# Altium footprint library DIP.PcbLib: 25 footprints (part 1 of 2)
Each footprint in its own frame and in the unit in brackets; x right, y up, seen from the top. Pads: shape width x height; smd on the part's side, far side on the other; paste and mask are expansions set on the pad; w line width, h text height; cw(c..) or ccw(c..) is an arc to the next point about the centre after c.
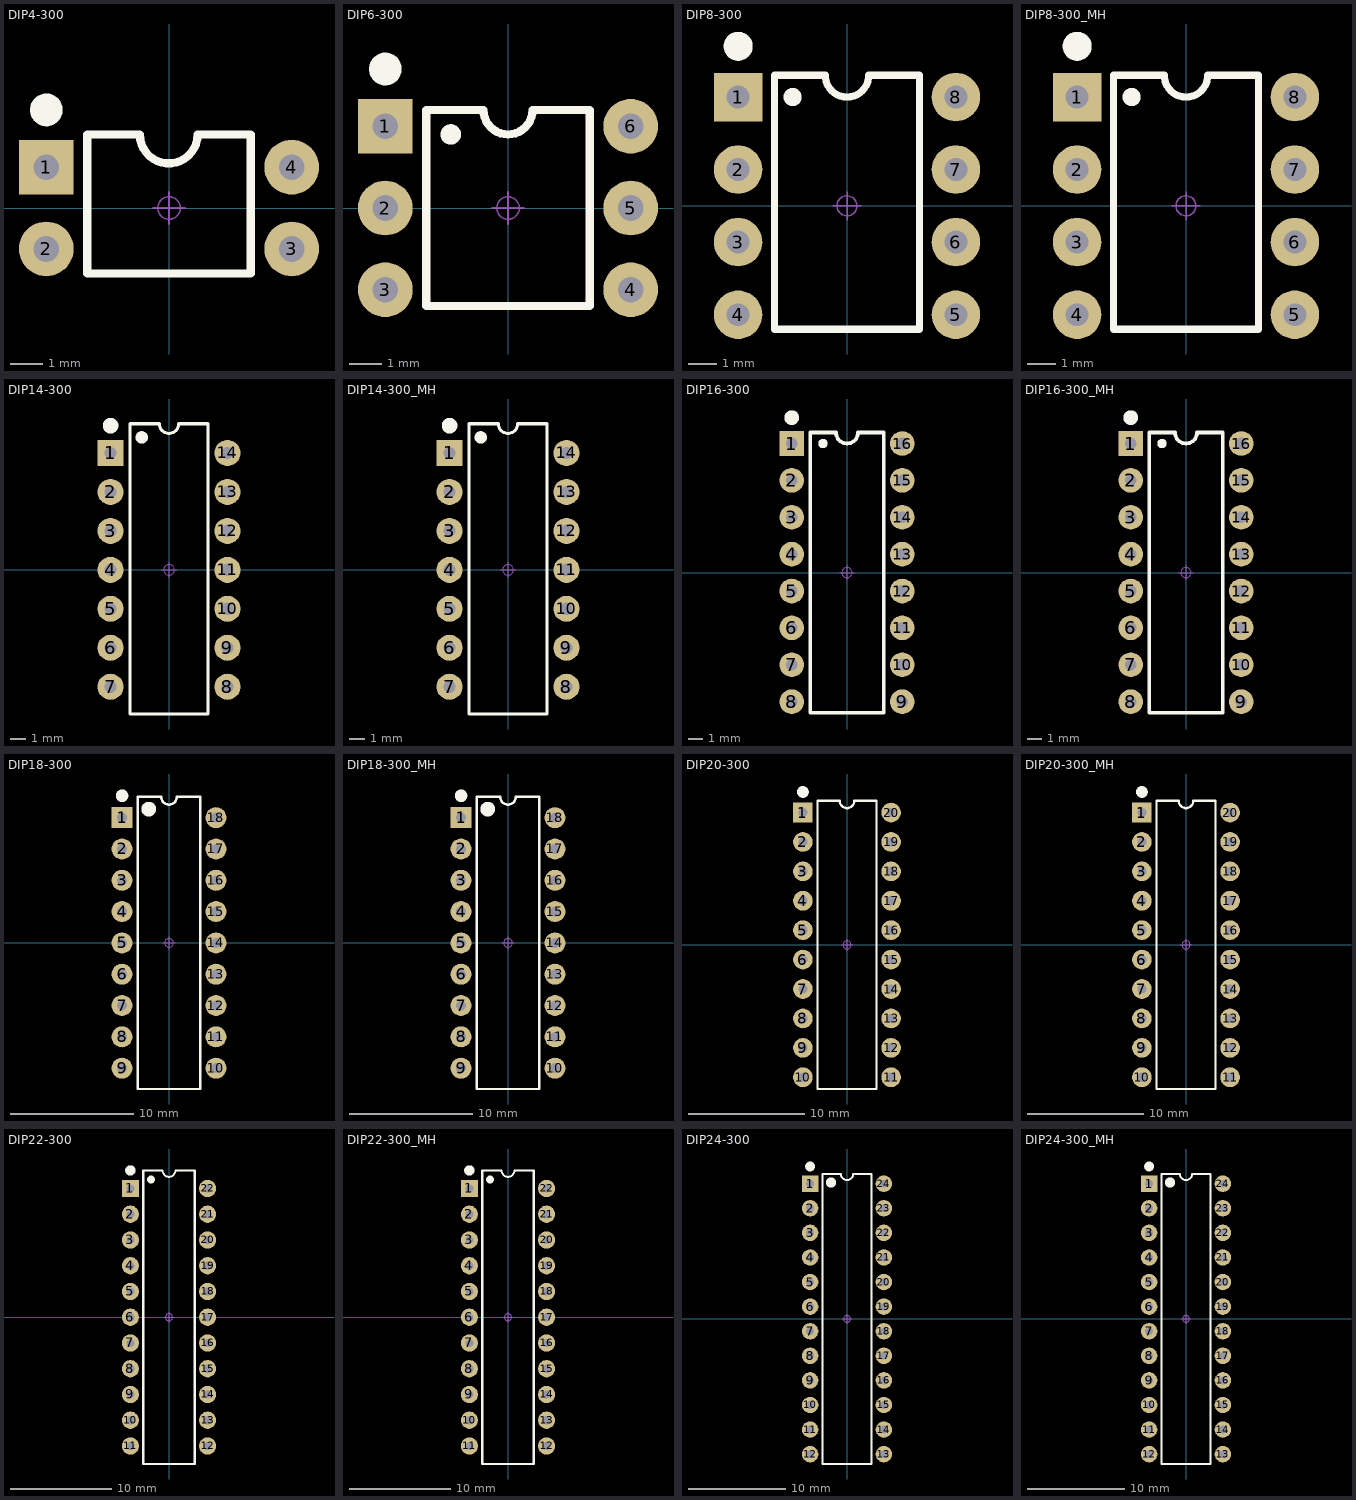
[diagram p0: the footprints below, top view; thin cyan lines are the x and y axes]

## DIP4-300 [mm] "4.6*7.6*3.8(长宽高）"
pads (4):
  rect 1.7x1.7 hole 0.8: 1(-3.81,1.27)
  round 1.7 hole 0.8: 2(-3.81,-1.27) 3(3.81,-1.27) 4(3.81,1.27)
Top Overlay:
  circle w0.508: c-3.81,3.048 r0.254
  lines w0.254: -2.54,-2.032 2.54,-2.032 2.54,2.286 0.889,2.286 cw(c-0.009,2.286) -0.907,2.286 -2.54,2.286 -2.54,-2.032
Mechanical 15:
  circle w0.05: c0,0 r0.35
  lines w0.05: -0.5,0 0.5,0 ; 0,-0.5 0,0.5
3D body "DIP4-300.STEP": height 4.5, standoff -3.29, extent -3.935,-2.29 3.935,2.29

## DIP6-300 [mm] "6.8*7.6*3.8(长宽高）"
pads (6):
  rect 1.7x1.7 hole 0.8: 1(-3.81,2.54)
  round 1.7 hole 0.8: 2(-3.81,0) 3(-3.81,-2.54) 4(3.81,-2.54) 5(3.81,0) 6(3.81,2.54)
Top Overlay:
  circle w0.508: c-3.81,4.318 r0.254
  circle w0.381: c-1.778,2.286 r0.127
  lines w0.254: -2.54,-3.048 -2.54,3.048 -0.762,3.048 ccw(c0,3.048) 0,2.286 ccw(c0,3.048) 0.762,3.048 2.54,3.048 2.54,-3.048 -2.54,-3.048
Mechanical 15:
  circle w0.05: c0,0 r0.35
  lines w0.05: -0.5,0 0.5,0 ; 0,-0.5 0,0.5
3D body "DIP6-300.STEP": height 4.5, standoff -3.2, extent -3.925,-3.43 3.925,3.43

## DIP8-300 [mm] "9.4*7.6*3.8(长宽高）"
pads (8):
  rect 1.7x1.7 hole 0.8: 1(-3.81,3.81)
  round 1.7 hole 0.8: 2(-3.81,1.27) 3(-3.81,-1.27) 4(-3.81,-3.81) 5(3.81,-3.81) 6(3.81,-1.27) 7(3.81,1.27) 8(3.81,3.81)
Top Overlay:
  circle w0.508: c-3.81,5.588 r0.254
  circle w0.381: c-1.905,3.81 r0.127
  lines w0.254: -2.54,-4.318 2.54,-4.318 2.54,4.572 0.762,4.572 cw(c0,4.572) 0,3.81 cw(c0,4.572) -0.762,4.572 -2.54,4.572 -2.54,-4.318
Mechanical 15:
  circle w0.05: c0,0 r0.35
  lines w0.05: -0.5,0 0.5,0 ; 0,-0.5 0,0.5
3D body "DIP8-300.STEP": height 4.5, standoff -3.2, extent -3.925,-4.7 3.925,4.7

## DIP8-300_MH [mm] "带底座 9.4*7.6*3.8(长宽高）"
pads (8):
  rect 1.7x1.7 hole 0.8: 1(-3.81,3.81)
  round 1.7 hole 0.8: 2(-3.81,1.27) 3(-3.81,-1.27) 4(-3.81,-3.81) 5(3.81,-3.81) 6(3.81,-1.27) 7(3.81,1.27) 8(3.81,3.81)
Top Overlay:
  circle w0.381: c-1.905,3.81 r0.127
  circle w0.508: c-3.81,5.588 r0.254
  lines w0.254: -2.54,-4.318 2.54,-4.318 2.54,4.572 0.762,4.572 cw(c0,4.572) 0,3.81 cw(c0,4.572) -0.762,4.572 -2.54,4.572 -2.54,-4.318
Mechanical 15:
  circle w0.05: c0,0 r0.35
  lines w0.05: -0.5,0 0.5,0 ; 0,-0.5 0,0.5
3D body "DIP-MH8-300.STEP": height 4.95, standoff -2.95, extent -5,-5.19 5,5.19
3D body "DIP8-300.STEP": height 7.7, standoff 0, extent -3.925,-4.7 3.925,4.7

## DIP14-300 [mm] "19*7.6*3.8(长宽高）"
pads (14):
  rect 1.7x1.7 hole 0.8: 1(-3.81,7.62)
  round 1.7 hole 0.8: 2(-3.81,5.08) 3(-3.81,2.54) 4(-3.81,0) 5(-3.81,-2.54) 6(-3.81,-5.08) 7(-3.81,-7.62) 8(3.81,-7.62) 9(3.81,-5.08) 10(3.81,-2.54) 11(3.81,0) 12(3.81,2.54) 13(3.81,5.08) 14(3.81,7.62)
Top Overlay:
  circle w0.6: c-1.778,8.636 r0.1
  circle w0.508: c-3.81,9.398 r0.254
  lines w0.2: -2.54,-9.398 2.54,-9.398 2.54,9.525 0.635,9.525 cw(c0,9.525) -0.635,9.525 -2.54,9.525 -2.54,-9.398
Mechanical 15:
  circle w0.05: c0,0 r0.35
  lines w0.05: -0.5,0 0.5,0 ; 0,-0.5 0,0.5
3D body "DIP14-300.STEP": height 4.1, standoff -3.34, extent -3.98,-9.5 3.98,9.5

## DIP14-300_MH [mm] "带底座  19*7.6*3.8(长宽高）"
pads (14):
  rect 1.7x1.7 hole 0.8: 1(-3.81,7.62)
  round 1.7 hole 0.8: 2(-3.81,5.08) 3(-3.81,2.54) 4(-3.81,0) 5(-3.81,-2.54) 6(-3.81,-5.08) 7(-3.81,-7.62) 8(3.81,-7.62) 9(3.81,-5.08) 10(3.81,-2.54) 11(3.81,0) 12(3.81,2.54) 13(3.81,5.08) 14(3.81,7.62)
Top Overlay:
  circle w0.508: c-3.81,9.398 r0.254
  circle w0.6: c-1.778,8.636 r0.1
  lines w0.2: -2.54,-9.398 2.54,-9.398 2.54,9.525 0.635,9.525 cw(c0,9.525) -0.635,9.525 -2.54,9.525 -2.54,-9.398
Mechanical 15:
  circle w0.05: c0,0 r0.35
  lines w0.05: -0.5,0 0.5,0 ; 0,-0.5 0,0.5
3D body "DIP-MH14-300.STEP": height 4.95, standoff -2.95, extent -5,-9 5,9
3D body "DIP14-300.STEP": height 7.15, standoff -0.3, extent -3.98,-9.5 3.98,9.5

## DIP16-300 [mm] "19.3*7.6*3.8(长宽高）"
pads (16):
  rect 1.7x1.7 hole 0.8: 1(-3.81,8.89)
  round 1.7 hole 0.8: 2(-3.81,6.35) 3(-3.81,3.81) 4(-3.81,1.27) 5(-3.81,-1.27) 6(-3.81,-3.81) 7(-3.81,-6.35) 8(-3.81,-8.89) 9(3.81,-8.89) 10(3.81,-6.35) 11(3.81,-3.81) 12(3.81,-1.27) 13(3.81,1.27) 14(3.81,3.81) 15(3.81,6.35) 16(3.81,8.89)
Top Overlay:
  circle w0.508: c-3.81,10.668 r0.254
  circle w0.381: c-1.651,8.89 r0.127
  lines w0.254: -2.54,-9.652 -2.54,9.652 -0.762,9.652 ccw(c0,9.652) 0,8.89 ccw(c0,9.652) 0.762,9.652 2.54,9.652 2.54,-9.652 -2.54,-9.652
Mechanical 15:
  circle w0.05: c0,0 r0.35
  lines w0.05: -0.5,0 0.5,0 ; 0,-0.5 0,0.5
3D body "DIP16-300.STEP": height 4.3, standoff -3.3, extent -4.02,-9.65 4.02,9.65

## DIP16-300_MH [mm] "带底座 19.3*7.6*3.8(长宽高）"
pads (16):
  rect 1.7x1.7 hole 0.8: 1(-3.81,8.89)
  round 1.7 hole 0.8: 2(-3.81,6.35) 3(-3.81,3.81) 4(-3.81,1.27) 5(-3.81,-1.27) 6(-3.81,-3.81) 7(-3.81,-6.35) 8(-3.81,-8.89) 9(3.81,-8.89) 10(3.81,-6.35) 11(3.81,-3.81) 12(3.81,-1.27) 13(3.81,1.27) 14(3.81,3.81) 15(3.81,6.35) 16(3.81,8.89)
Top Overlay:
  circle w0.508: c-3.81,10.668 r0.254
  circle w0.381: c-1.651,8.89 r0.127
  lines w0.254: -2.54,-9.652 -2.54,9.652 -0.762,9.652 ccw(c0,9.652) 0,8.89 ccw(c0,9.652) 0.762,9.652 2.54,9.652 2.54,-9.652 -2.54,-9.652
Mechanical 15:
  circle w0.05: c0,0 r0.35
  lines w0.05: -0.5,0 0.5,0 ; 0,-0.5 0,0.5
3D body "DIP-MH16-300.STEP": height 5.25, standoff -2.95, extent -4.981,-10.25 5,10.25
3D body "DIP16-300.STEP": height 7.5, standoff -0.1, extent -4.02,-9.65 4.02,9.65

## DIP18-300 [mm] "23*7.6*3.8(长宽高）"
height 5.08
pads (18):
  rect 1.7x1.7 hole 0.8: 1(-3.81,10.16)
  round 1.7 hole 0.8: 2(-3.81,7.62) 3(-3.81,5.08) 4(-3.81,2.54) 5(-3.81,0) 6(-3.81,-2.54) 7(-3.81,-5.08) 8(-3.81,-7.62) 9(-3.81,-10.16) 10(3.81,-10.16) 11(3.81,-7.62) 12(3.81,-5.08) 13(3.81,-2.54) 14(3.81,0) 15(3.81,2.54) 16(3.81,5.08) 17(3.81,7.62) 18(3.81,10.16)
Top Overlay:
  circle w0.6: c-1.65,10.85 r0.3
  circle w0.508: c-3.81,11.938 r0.254
  lines w0.2: -2.54,-11.85 -2.54,11.85 -0.635,11.85 ccw(c0,11.85) 0.635,11.85 2.54,11.85 2.54,-11.85 -2.54,-11.85
Mechanical 15:
  circle w0.05: c0,0 r0.35
  lines w0.05: -0.5,0 0.5,0 ; 0,-0.5 0,0.5
3D body "DIP18-300.STEP": height 4.2, standoff -3.24, extent -4,-11.55 4,11.55

## DIP18-300_MH [mm] "带底座 23*7.6*3.8(长宽高）"
height 5.08
pads (18):
  rect 1.7x1.7 hole 0.8: 1(-3.81,10.16)
  round 1.7 hole 0.8: 2(-3.81,7.62) 3(-3.81,5.08) 4(-3.81,2.54) 5(-3.81,0) 6(-3.81,-2.54) 7(-3.81,-5.08) 8(-3.81,-7.62) 9(-3.81,-10.16) 10(3.81,-10.16) 11(3.81,-7.62) 12(3.81,-5.08) 13(3.81,-2.54) 14(3.81,0) 15(3.81,2.54) 16(3.81,5.08) 17(3.81,7.62) 18(3.81,10.16)
Top Overlay:
  circle w0.508: c-3.81,11.938 r0.254
  circle w0.6: c-1.65,10.85 r0.3
  lines w0.2: -2.54,-11.85 2.54,-11.85 2.54,11.85 0.635,11.85 cw(c0,11.85) -0.635,11.85 -2.54,11.85 -2.54,-11.85
Mechanical 15:
  circle w0.05: c0,0 r0.35
  lines w0.05: -0.5,0 0.5,0 ; 0,-0.5 0,0.5
3D body "DIP-MH18-300.STEP": height 5.25, standoff -2.95, extent -4.981,-11.52 5,11.52
3D body "DIP18-300.STEP": height 7.4, standoff -0.04, extent -4,-11.55 4,11.55

## DIP20-300 [mm] "26.4*7.6*3.8(长宽高）"
pads (20):
  rect 1.7x1.7 hole 0.8: 1(-3.81,11.43)
  round 1.7 hole 0.8: 2(-3.81,8.89) 3(-3.81,6.35) 4(-3.81,3.81) 5(-3.81,1.27) 6(-3.81,-1.27) 7(-3.81,-3.81) 8(-3.81,-6.35) 9(-3.81,-8.89) 10(-3.81,-11.43) 11(3.81,-11.43) 12(3.81,-8.89) 13(3.81,-6.35) 14(3.81,-3.81) 15(3.81,-1.27) 16(3.81,1.27) 17(3.81,3.81) 18(3.81,6.35) 19(3.81,8.89) 20(3.81,11.43)
Top Overlay:
  circle w0.508: c-3.81,13.208 r0.254
  lines w0.2: -2.54,-12.446 2.54,-12.446 2.54,12.446 0.635,12.446 cw(c0,12.446) -0.635,12.446 -2.54,12.446 -2.54,-12.446
Mechanical 15:
  circle w0.05: c0,0 r0.35
  lines w0.05: -0.5,0 0.5,0 ; 0,-0.5 0,0.5
3D body "DIP20-300.STEP": height 4.5, standoff -3.3, extent -4,-13.2 4,13.2

## DIP20-300_MH [mm] "带底座 26.4*7.6*3.8(长宽高）"
pads (20):
  rect 1.7x1.7 hole 0.8: 1(-3.81,11.43)
  round 1.7 hole 0.8: 2(-3.81,8.89) 3(-3.81,6.35) 4(-3.81,3.81) 5(-3.81,1.27) 6(-3.81,-1.27) 7(-3.81,-3.81) 8(-3.81,-6.35) 9(-3.81,-8.89) 10(-3.81,-11.43) 11(3.81,-11.43) 12(3.81,-8.89) 13(3.81,-6.35) 14(3.81,-3.81) 15(3.81,-1.27) 16(3.81,1.27) 17(3.81,3.81) 18(3.81,6.35) 19(3.81,8.89) 20(3.81,11.43)
Top Overlay:
  circle w0.508: c-3.81,13.208 r0.254
  lines w0.2: -2.54,-12.446 2.54,-12.446 2.54,12.446 0.635,12.446 cw(c0,12.446) -0.635,12.446 -2.54,12.446 -2.54,-12.446
Mechanical 15:
  circle w0.05: c0,0 r0.35
  lines w0.05: -0.5,0 0.5,0 ; 0,-0.5 0,0.5
3D body "DIP20-300.STEP": height 8.1, standoff 0.3, extent -4,-13.2 4,13.2
3D body "DIP-MH20-300.STEP": height 5.25, standoff -2.95, extent -4.981,-12.79 5,12.79

## DIP22-300 [mm] "29*7.6*3.8(长宽高）"
pads (22):
  rect 1.7x1.7 hole 0.8: 1(-3.81,12.7)
  round 1.7 hole 0.8: 2(-3.81,10.16) 3(-3.81,7.62) 4(-3.81,5.08) 5(-3.81,2.54) 6(-3.81,0) 7(-3.81,-2.54) 8(-3.81,-5.08) 9(-3.81,-7.62) 10(-3.81,-10.16) 11(-3.81,-12.7) 12(3.81,-12.7) 13(3.81,-10.16) 14(3.81,-7.62) 15(3.81,-5.08) 16(3.81,-2.54) 17(3.81,0) 18(3.81,2.54) 19(3.81,5.08) 20(3.81,7.62) 21(3.81,10.16) 22(3.81,12.7)
Top Overlay:
  circle w0.508: c-3.81,14.478 r0.254
  circle w0.508: c-1.778,13.578 r0.127
  lines w0.2: -2.54,-14.478 -2.54,14.478 -0.635,14.478 ccw(c0,14.478) 0.635,14.478 2.54,14.478 2.54,-14.478 -2.54,-14.478
Mechanical 15:
  circle w0.05: c0,0 r0.35
  lines w0.05: -0.5,0 0.5,0 ; 0,-0.5 0,0.5
3D body "DIP22-300.STEP": height 4.1, standoff -3.34, extent -3.95,-14.47 3.95,14.47

## DIP22-300_MH [mm] "带底座 29*7.6*3.8(长宽高）"
pads (22):
  rect 1.7x1.7 hole 0.8: 1(-3.81,12.7)
  round 1.7 hole 0.8: 2(-3.81,10.16) 3(-3.81,7.62) 4(-3.81,5.08) 5(-3.81,2.54) 6(-3.81,0) 7(-3.81,-2.54) 8(-3.81,-5.08) 9(-3.81,-7.62) 10(-3.81,-10.16) 11(-3.81,-12.7) 12(3.81,-12.7) 13(3.81,-10.16) 14(3.81,-7.62) 15(3.81,-5.08) 16(3.81,-2.54) 17(3.81,0) 18(3.81,2.54) 19(3.81,5.08) 20(3.81,7.62) 21(3.81,10.16) 22(3.81,12.7)
Top Overlay:
  circle w0.508: c-3.81,14.478 r0.254
  circle w0.508: c-1.778,13.578 r0.127
  lines w0.2: -2.54,-14.478 2.54,-14.478 2.54,14.478 0.635,14.478 cw(c0,14.478) -0.635,14.478 -2.54,14.478 -2.54,-14.478
Mechanical 15:
  circle w0.05: c0,0 r0.35
  lines w0.05: -0.5,0 0.5,0 ; 0,-0.5 0,0.5
3D body "DIP-MH22-300.STEP": height 5.25, standoff -2.95, extent -4.981,-14.06 5,14.06
3D body "DIP22-300.STEP": height 7.3, standoff -0.14, extent -3.95,-14.47 3.95,14.47

## DIP24-300 [mm] "31*7.6*3.8(长宽高）"
height 5.08
pads (24):
  rect 1.7x1.7 hole 0.8: 1(-3.81,13.97)
  round 1.7 hole 0.8: 2(-3.81,11.43) 3(-3.81,8.89) 4(-3.81,6.35) 5(-3.81,3.81) 6(-3.81,1.27) 7(-3.81,-1.27) 8(-3.81,-3.81) 9(-3.81,-6.35) 10(-3.81,-8.89) 11(-3.81,-11.43) 12(-3.81,-13.97) 13(3.81,-13.97) 14(3.81,-11.43) 15(3.81,-8.89) 16(3.81,-6.35) 17(3.81,-3.81) 18(3.81,-1.27) 19(3.81,1.27) 20(3.81,3.81) 21(3.81,6.35) 22(3.81,8.89) 23(3.81,11.43) 24(3.81,13.97)
Top Overlay:
  circle w0.508: c-3.81,15.748 r0.254
  circle w0.8: c-1.651,14.086 r0.127
  lines w0.2: -2.54,-14.986 -2.54,14.986 -0.635,14.986 ccw(c0,14.986) 0.635,14.986 2.54,14.986 2.54,-14.986 -2.54,-14.986
Mechanical 15:
  circle w0.05: c0,0 r0.35
  lines w0.05: -0.5,0 0.5,0 ; 0,-0.5 0,0.5
3D body "DIP24-300.STEP": height 4.5, standoff -3.3, extent -3.975,-15.5 4.025,15.5

## DIP24-300_MH [mm] "带底座 31*7.6*3.8(长宽高）"
height 5.08
pads (24):
  rect 1.7x1.7 hole 0.8: 1(-3.81,13.97)
  round 1.7 hole 0.8: 2(-3.81,11.43) 3(-3.81,8.89) 4(-3.81,6.35) 5(-3.81,3.81) 6(-3.81,1.27) 7(-3.81,-1.27) 8(-3.81,-3.81) 9(-3.81,-6.35) 10(-3.81,-8.89) 11(-3.81,-11.43) 12(-3.81,-13.97) 13(3.81,-13.97) 14(3.81,-11.43) 15(3.81,-8.89) 16(3.81,-6.35) 17(3.81,-3.81) 18(3.81,-1.27) 19(3.81,1.27) 20(3.81,3.81) 21(3.81,6.35) 22(3.81,8.89) 23(3.81,11.43) 24(3.81,13.97)
Top Overlay:
  circle w0.508: c-3.81,15.748 r0.254
  circle w0.8: c-1.651,14.086 r0.127
  lines w0.2: -2.54,-14.986 2.54,-14.986 2.54,14.986 0.635,14.986 cw(c0,14.986) -0.635,14.986 -2.54,14.986 -2.54,-14.986
Mechanical 15:
  circle w0.05: c0,0 r0.35
  lines w0.05: -0.5,0 0.5,0 ; 0,-0.5 0,0.5
3D body "DIP24-300.STEP": height 7.85, standoff 0.05, extent -3.975,-15.5 4.025,15.5
3D body "DIP-MH24-300.STEP": height 4.95, standoff -3.05, extent -5.025,-15.5 5.025,15.5